# EAGLE library part ADG723BRMZ (library PassiveLiFiTag)
IC SW SPST-NO/NCX2 4OHM 8MSOP
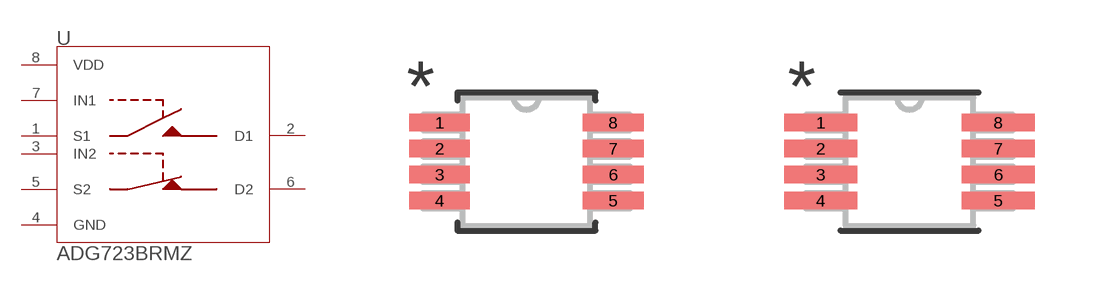
[diagram p1: symbol with the pads of RM_8_ADI; footprints RM_8_ADI, RM_8_ADI-M]

Designator prefix U

## ADG723BRMZ (COPYRIGHT: Copyright (C) 2023 Ultra Librarian. All rights reserved.; DIGIKEY_PART_NUMBER_1: ADG723BRMZ-ND; DIGIKEY_PART_NUMBER_2: 2156-ADG723BRMZ-ND; MANUFACTURER_PART_NUMBER: ADG723BRMZ; MFR_NAME: Analog Devices Inc)  [RM_8_ADI]
1  S1  pas
2  D1  pas
3  IN2  pas
4  GND  pas
5  S2  pas
6  D2  pas
7  IN1  pas
8  VDD  pwr

## ADG723BRMZRM_8_ADI-M (COPYRIGHT: Copyright (C) 2023 Ultra Librarian. All rights reserved.; DIGIKEY_PART_NUMBER_1: ADG723BRMZ-ND; DIGIKEY_PART_NUMBER_2: 2156-ADG723BRMZ-ND; MANUFACTURER_PART_NUMBER: ADG723BRMZ; MFR_NAME: Analog Devices Inc)  [RM_8_ADI-M]
Pads as for RM_8_ADI

## ADG723BRMZRM_8_ADI-L (COPYRIGHT: Copyright (C) 2023 Ultra Librarian. All rights reserved.; DIGIKEY_PART_NUMBER_1: ADG723BRMZ-ND; DIGIKEY_PART_NUMBER_2: 2156-ADG723BRMZ-ND; MANUFACTURER_PART_NUMBER: ADG723BRMZ; MFR_NAME: Analog Devices Inc)  [RM_8_ADI-L]
Pads as for RM_8_ADI

## Footprint RM_8_ADI (pad centres in mm)
smd 1.524 x 0.432: 1 -2.172,0.975; 2 -2.172,0.325; 3 -2.172,-0.325; 4 -2.172,-0.975; 5 2.172,-0.975; 6 2.172,-0.325; 7 2.172,0.325; 8 2.172,0.975

## Footprint RM_8_ADI-M (pad centres in mm)
smd 1.829 x 0.432: 1 -2.223,0.975; 2 -2.223,0.325; 3 -2.223,-0.325; 4 -2.223,-0.975; 5 2.223,-0.975; 6 2.223,-0.325; 7 2.223,0.325; 8 2.223,0.975

## Footprint RM_8_ADI-L (pad centres in mm)
smd 1.219 x 0.381: 1 -2.121,0.975; 2 -2.121,0.325; 3 -2.121,-0.325; 4 -2.121,-0.975; 5 2.121,-0.975; 6 2.121,-0.325; 7 2.121,0.325; 8 2.121,0.975